# EAGLE library part DM163QFP (library Radicon)
DM163 8x3 Channel constant current LED driver SILICON TOUCH TECNOLOGY INC
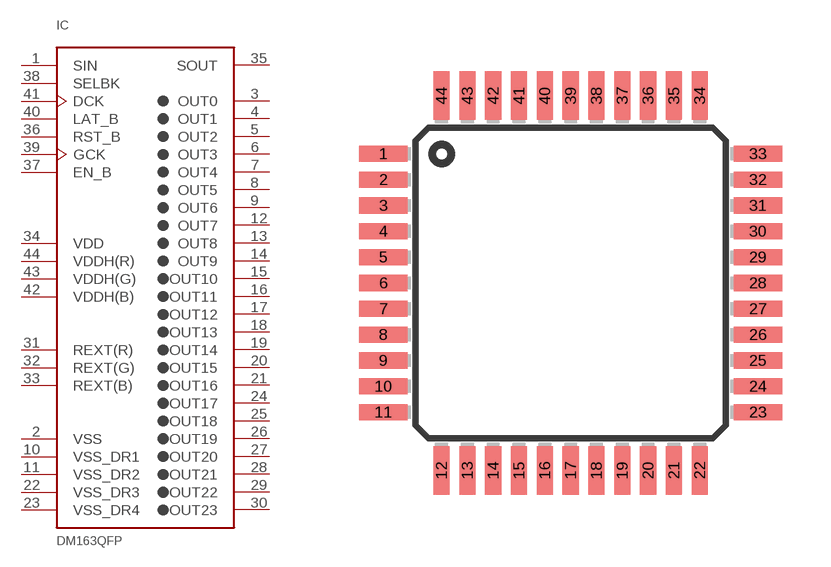
[diagram p16: symbol with the pads of TQFP44; footprint TQFP44]

Designator prefix IC

## DM163QFP  [TQFP44]
1  SIN  in
2  VSS  pwr
3  OUT0  oc
4  OUT1  oc
5  OUT2  oc
6  OUT3  oc
7  OUT4  oc
8  OUT5  oc
9  OUT6  oc
10  VSS_DR1  pwr
11  VSS_DR2  pwr
12  OUT7  oc
13  OUT8  oc
14  OUT9  oc
15  OUT10  oc
16  OUT11  oc
17  OUT12  oc
18  OUT13  oc
19  OUT14  oc
20  OUT15  oc
21  OUT16  oc
22  VSS_DR3  pwr
23  VSS_DR4  pwr
24  OUT17  oc
25  OUT18  oc
26  OUT19  oc
27  OUT20  oc
28  OUT21  oc
29  OUT22  oc
30  OUT23  oc
31  REXT(R)  pas
32  REXT(G)  pas
33  REXT(B)  pas
34  VDD  pwr
35  SOUT  out
36  RST_B  in
37  EN_B  in
38  SELBK  in
39  GCK  in
40  LAT_B  in
41  DCK  in
42  VDDH(B)  pwr
43  VDDH(G)  pwr
44  VDDH(R)  pwr

## Footprint TQFP44 (pad centres in mm)
Thin Plasic Quad Flat Package
smd 1.5 x 0.5: 1 -5.8,4; 2 -5.8,3.2; 3 -5.8,2.4; 4 -5.8,1.6; 5 -5.8,0.8; 6 -5.8,0; 7 -5.8,-0.8; 8 -5.8,-1.6; 9 -5.8,-2.4; 10 -5.8,-3.2; 11 -5.8,-4; 23 5.8,-4; 24 5.8,-3.2; 25 5.8,-2.4; 26 5.8,-1.6; 27 5.8,-0.8; 28 5.8,0; 29 5.8,0.8; 30 5.8,1.6; 31 5.8,2.4; 32 5.8,3.2; 33 5.8,4
smd 0.5 x 1.5: 12 -4,-5.8; 13 -3.2,-5.8; 14 -2.4,-5.8; 15 -1.6,-5.8; 16 -0.8,-5.8; 17 0,-5.8; 18 0.8,-5.8; 19 1.6,-5.8; 20 2.4,-5.8; 21 3.2,-5.8; 22 4,-5.8; 34 4,5.8; 35 3.2,5.8; 36 2.4,5.8; 37 1.6,5.8; 38 0.8,5.8; 39 0,5.8; 40 -0.8,5.8; 41 -1.6,5.8; 42 -2.4,5.8; 43 -3.2,5.8; 44 -4,5.8